# Altium schematic symbol library Capacitor.SchLib: 5 symbols
Pins are listed as number, name and electrical type; pins without a type are passive.

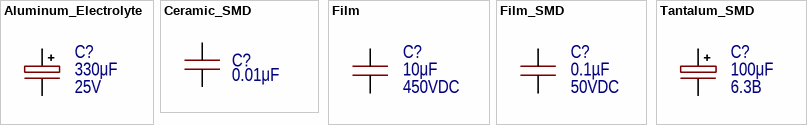
[diagram p0: symbols Aluminum_Electrolyte to Tantalum_SMD]

## Aluminum_Electrolyte
designator C?  Напряжение: 25V  Значение: 330μF
Производитель: Wurth; УникальныйНомер: 860080475013; Типоразмер: 14x10x5 mm; Ссылка: ***; ТипКомпонента: Aluminium capacitor; Точность: ±20%
footprint CAP: D5C2H11
footprint CAP: D6.3C2.5H11
footprint CAP: D6.3C2.5H16
footprint CAP: D8C3.5H12
footprint CAP: D10C5H12.5
footprint CAP: D10C5H20
footprint CAP: D10C5H16
footprint CAP: D13C5H20
footprint CAP: D16C7.5H25
footprint CAP: D16C7.5H31.5
footprint CAP: D18C7.5H25
footprint CAP: D18C7.5H40
footprint CAP: D22C10H25
footprint CAP: D25C10H50
footprint CAP: D30C10H37
footprint CAP: D30C10.5H47
footprint CAP: D35C10H40
footprint CAP: D35C10.5H50
footprint CAP: SMD D6.3A6.6H7.7
footprint CAP: D18C7.5H32
footprint CAP: D18C7.5H32 (H)
footprint CAP: SMD D8A6.9
footprint CAP: SMD D5A5.9
footprint CAP: SMD D4A3.9
pins: 1, 2
1 alternate drawing of the same symbol

## Ceramic_SMD
designator C?  Значение: 0.01μF
Производитель: Yageo; УникальныйНомер: CC0201KRX7R7BB103; Типоразмер: 0201; Ссылка: ***; ТипКомпонента: Ceramic capacitor; Точность: ±10%; ТипДиэлектрика: X7R; Напряжение: 16V
footprint CAP: 0201
footprint CAP: 0402
footprint CAP: 0603
footprint CAP: 0805
footprint CAP: 1206
footprint CAP: 1210
footprint CAP: 1812
footprint CAP: 2220
pins: 1, 2

## Film
designator C?  Напряжение: 450VDC  Значение: 10μF
Производитель: Epcos; УникальныйНомер: B32774D4106K000; Типоразмер: 31.5x15 mm; Ссылка: ***; ТипКомпонента: Film capacitor; Точность: ±10%
footprint CAP: AY2102M29Y5US63L7
footprint CAP: B32021
footprint CAP: B32521
footprint CAP: B32522
footprint CAP: B32653A
footprint CAP: B32654
footprint CAP: B32674
footprint CAP: B32676
footprint CAP: B32774D (w=15mm)
footprint CAP: B32774D (w=22mm)
footprint CAP: B32923
footprint CAP: MKP1848S
footprint CAP: VY2
footprint CAP: PHE845VD5220MR30L2
pins: 1, 2

## Film_SMD
designator C?  Напряжение: 50VDC  Значение: 0.1µF
Производитель: Panasonic Electronic Components; УникальныйНомер: ECH-U1H104JX9; Типоразмер: 1913; Ссылка: ***; ТипКомпонента: Film capacitor; Точность: ±5%
footprint CAP: ECHU(X) D (2416)
footprint CAP: ECHU(X) E (1913)
footprint CAP: ECHU(X) G (1210)
footprint CAP: ECHU(X) H (1206)
footprint CAP: ECHU(X) J (0805)
footprint CAP: ECHU(X) K (0603)
pins: 1, 2

## Tantalum_SMD
designator C?  Напряжение: 6.3В  Значение: 100μF
Производитель: AVX; УникальныйНомер: F930J107KAAAJ6; Типоразмер: Тип А (3216); Ссылка: ***; Точность: ±10%; ТипКомпонента: Tantalum capacitor
footprint CAP: TANTAL-A
footprint CAP: TANTAL-B
footprint CAP: TANTAL-C
footprint CAP: TANTAL-D
footprint CAP: TANTAL-E
pins: 1, 2